# Altium schematic symbol library RF Module.SchLib: 92 symbols (part 2 of 2)
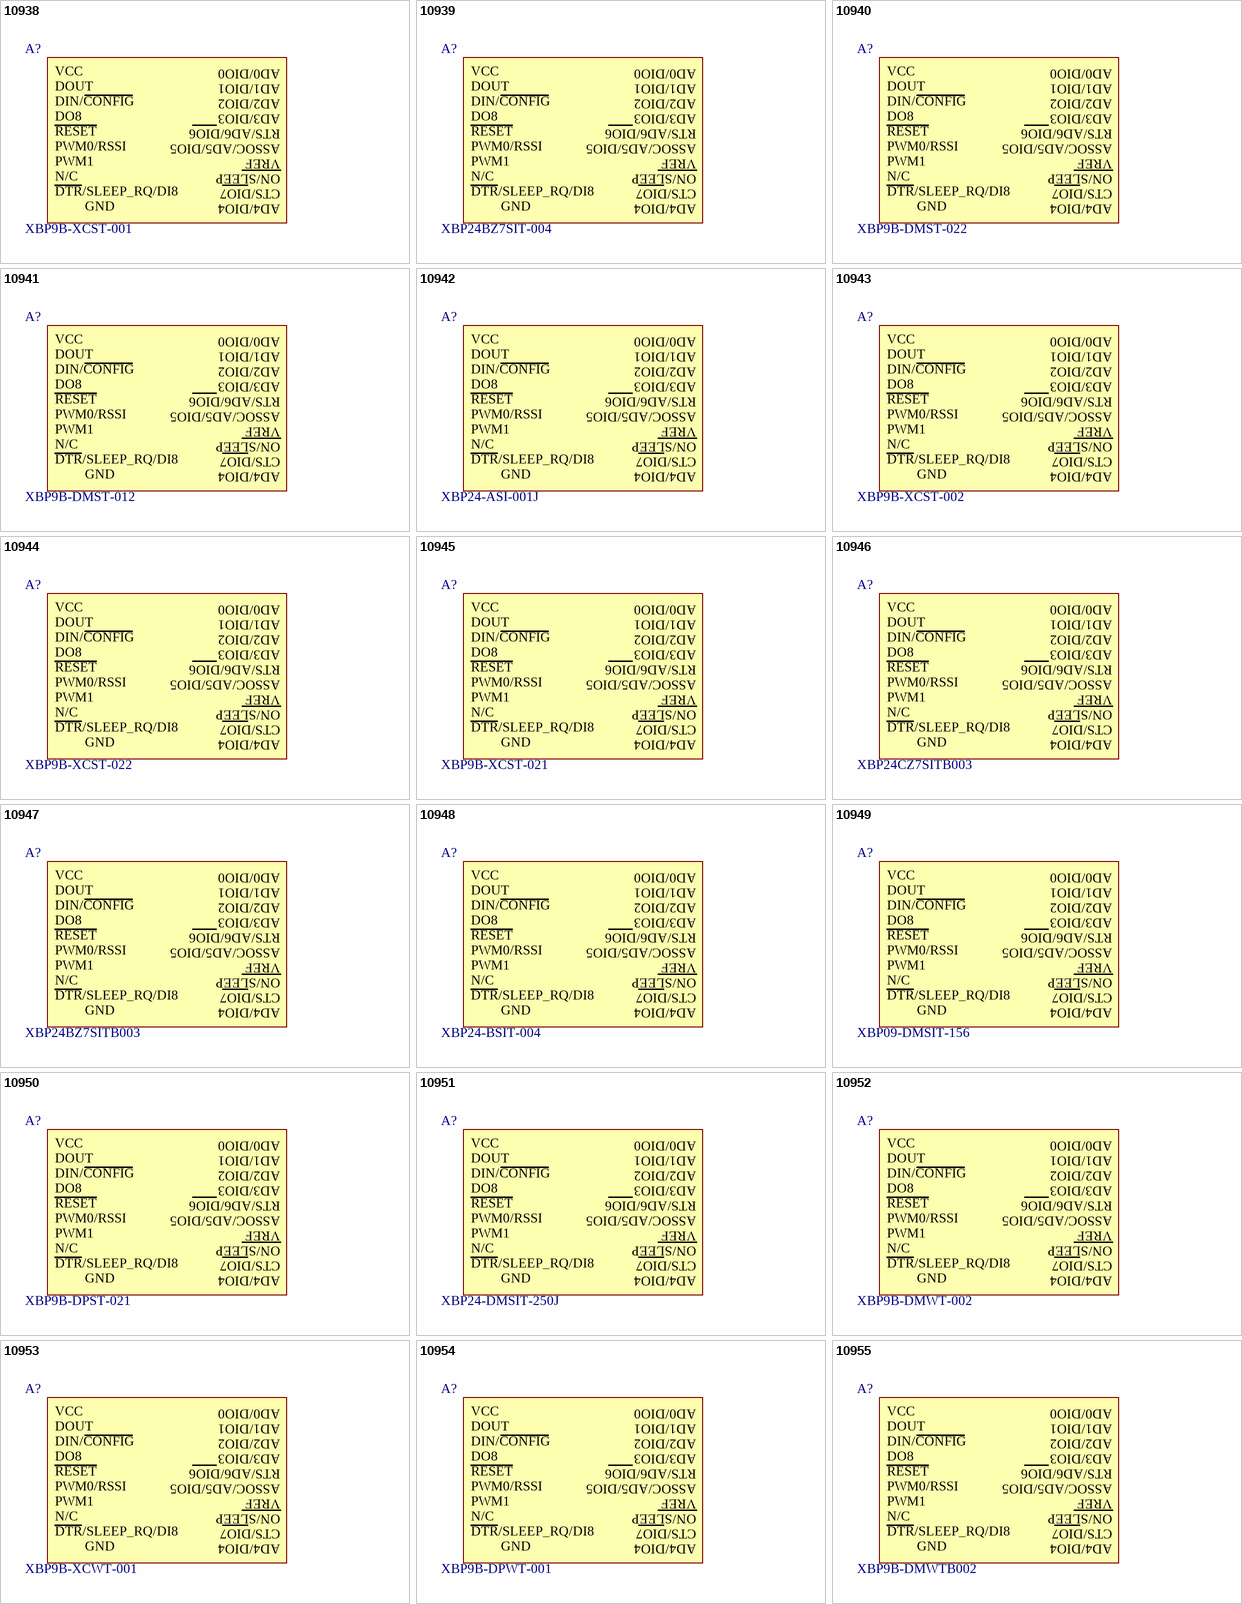
[diagram p7: symbols 10938 to 10955]

## 10938
designator A?, comment XBP9B-XCST-001
XBEE PRO XSC S3B 900MHZ 250MW; Manufacturer: Digi International; RF Family/Standard: General ISM &lt; 1GHz; Modulation: FHSS; Frequency: 902MHz ~ 928MHz; DataRate: 20kbps; Power - Output: 24dBm; Sensitivity: -109dBm; Serial Interfaces: SPI, UART; Antenna Type: Not Included, RP-SMA; Voltage - Supply: 2.4 V ~ 3.6 V; Current - Receiving: 26mA; Current - Transmitting: 215mA; PartId: 10938; Part Number: XBP9B-XCST-001; Supplier 1: Digi-Key; Supplier Part Number 1: 602-1293-ND; ComponentLink1Description: Datasheet; ComponentLink1URL: http://www.digi.com/pdf/ds_xbeeproxsc.pdf; ComponentLink2Description: Digi-Key Listing; ComponentLink2URL: https://www.digikey.com/product-detail/en/digi-international/XBP9B-XCST-001/602-1293-ND/3482817; Price: 58.6; Device Package: Module; Operating Temperature: -40C ~ 85C; Mounting Type: Through Hole
footprint DIGI XBEE PRO RPSMA FOR HDR
text: AD0/DIO0; VCC; AD1/DIO1; DOUT; AD2/DIO2; DIN/CONFIG; AD3/DIO3; DO8; RTS/AD6/DIO6; RESET; ASSOC/AD5/DIO5; PWM0/RSSI; VREF; PWM1; ON/SLEEP; N/C; CTS/DIO7; DTR/SLEEP_RQ/DI8; AD4/DIO4; GND

## 10939
designator A?, comment XBP24BZ7SIT-004
MODULE ZIGBEE-PRO W/RPSMA ANT; Manufacturer: Digi International; Protocol: Zigbee; Frequency: 2.4GHz; DataRate: 250kbps; Power - Output: 18dBm; Sensitivity: -102dBm; Serial Interfaces: IC, PWM, SPI, UART; Antenna Type: Not Included, RP-SMA; Voltage - Supply: 2.7 V ~ 3.6 V; Current - Receiving: 47mA; Current - Transmitting: 205mA; PartId: 10939; Part Number: XBP24BZ7SIT-004; Supplier 1: Digi-Key; Supplier Part Number 1: 602-1180-ND; ComponentLink1Description: Datasheet; ComponentLink1URL: //media.digikey.com/pdf/Data%20Sheets/Digi%20International%20PDFs/xbeezbmodule_ds.pdf; ComponentLink2Description: Digi-Key Listing; ComponentLink2URL: https://www.digikey.com/product-detail/en/digi-international/XBP24BZ7SIT-004/602-1180-ND/2344900; Price: 40.46; Device Package: Module; Operating Temperature: -40C ~ 85C; RF Family/Standard: 802.15.4; Mounting Type: Through Hole
footprint DIGI XBEE PRO RPSMA FOR HDR
text: AD0/DIO0; VCC; AD1/DIO1; DOUT; AD2/DIO2; DIN/CONFIG; AD3/DIO3; DO8; RTS/AD6/DIO6; RESET; ASSOC/AD5/DIO5; PWM0/RSSI; VREF; PWM1; ON/SLEEP; N/C; CTS/DIO7; DTR/SLEEP_RQ/DI8; AD4/DIO4; GND

## 10940
designator A?, comment XBP9B-DMST-022
XBEE PRO RPSMA 250MW 200KBPS; Manufacturer: Digi International; RF Family/Standard: General ISM &lt; 1GHz; Modulation: FHSS; Frequency: 920MHz; Power - Output: 24dBm; Sensitivity: -101dBm; Serial Interfaces: UART; Antenna Type: Not Included, RP-SMA; Voltage - Supply: 2.1 V ~ 3.6 V; Current - Receiving: 29mA; Current - Transmitting: 215mA; PartId: 10940; Part Number: XBP9B-DMST-022; Supplier 1: Digi-Key; Supplier Part Number 1: XBP9B-DMST-022-ND; ComponentLink1Description: Datasheet; ComponentLink1URL: http://www.digi.com/pdf/ds_xbeepro900hp.pdf; ComponentLink2Description: Digi-Key Listing; ComponentLink2URL: https://www.digikey.com/product-detail/en/digi-international/XBP9B-DMST-022/XBP9B-DMST-022-ND/3728682; Price: 54.41; Device Package: Module; Operating Temperature: -40C ~ 85C; DataRate: 200kbps; Mounting Type: Through Hole
footprint DIGI XBEE PRO RPSMA FOR HDR
text: AD0/DIO0; VCC; AD1/DIO1; DOUT; AD2/DIO2; DIN/CONFIG; AD3/DIO3; DO8; RTS/AD6/DIO6; RESET; ASSOC/AD5/DIO5; PWM0/RSSI; VREF; PWM1; ON/SLEEP; N/C; CTS/DIO7; DTR/SLEEP_RQ/DI8; AD4/DIO4; GND

## 10941
designator A?, comment XBP9B-DMST-012
XBEE PRO DIGMESH S3B 900HP RPSMA; Manufacturer: Digi International; RF Family/Standard: General ISM &lt; 1GHz; Modulation: FHSS; Frequency: 902MHz ~ 928MHz; DataRate: 200kbps; Power - Output: 24dBm; Sensitivity: -101dBm; Serial Interfaces: UART; Antenna Type: Not Included, RP-SMA; Voltage - Supply: 2.1 V ~ 3.6 V; Current - Receiving: 29mA; Current - Transmitting: 215mA; PartId: 10941; Part Number: XBP9B-DMST-012; Supplier 1: Digi-Key; Supplier Part Number 1: 602-1304-ND; ComponentLink1Description: Datasheet; ComponentLink1URL: http://www.digi.com/pdf/ds_xbeepro900hp.pdf; ComponentLink2Description: Digi-Key Listing; ComponentLink2URL: https://www.digikey.com/product-detail/en/digi-international/XBP9B-DMST-012/602-1304-ND/3911190; Price: 54.41; Device Package: Module; Operating Temperature: -40C ~ 85C; Mounting Type: Through Hole
footprint DIGI XBEE PRO RPSMA FOR HDR
text: AD0/DIO0; VCC; AD1/DIO1; DOUT; AD2/DIO2; DIN/CONFIG; AD3/DIO3; DO8; RTS/AD6/DIO6; RESET; ASSOC/AD5/DIO5; PWM0/RSSI; VREF; PWM1; ON/SLEEP; N/C; CTS/DIO7; DTR/SLEEP_RQ/DI8; AD4/DIO4; GND

## 10942
designator A?, comment XBP24-ASI-001J
XBEE PRO 802.15.4 10MW RPSMA; Manufacturer: Digi International; Protocol: Zigbee; Frequency: 2.4GHz; DataRate: 250kbps; Power - Output: 10dBm; Sensitivity: -100dBm; Serial Interfaces: UART; Antenna Type: Not Included, RP-SMA; Voltage - Supply: 2.8 V ~ 3.4 V; Current - Receiving: 55mA; Current - Transmitting: 180mA; PartId: 10942; Part Number: XBP24-ASI-001J; Supplier 1: Digi-Key; Supplier Part Number 1: 602-1478-ND; ComponentLink1Description: Datasheet; ComponentLink1URL: http://www.digi.com/pdf/ds_xbeemultipointmodules.pdf; ComponentLink2Description: Digi-Key Listing; ComponentLink2URL: https://www.digikey.com/product-detail/en/digi-international/XBP24-ASI-001J/602-1478-ND/3482670; Price: 47.44; Device Package: Module; Operating Temperature: -40C ~ 85C; RF Family/Standard: 802.15.4; Mounting Type: Through Hole
footprint DIGI XBEE PRO RPSMA FOR HDR
text: AD0/DIO0; VCC; AD1/DIO1; DOUT; AD2/DIO2; DIN/CONFIG; AD3/DIO3; DO8; RTS/AD6/DIO6; RESET; ASSOC/AD5/DIO5; PWM0/RSSI; VREF; PWM1; ON/SLEEP; N/C; CTS/DIO7; DTR/SLEEP_RQ/DI8; AD4/DIO4; GND

## 10943
designator A?, comment XBP9B-XCST-002
XBEE PRO XSC S3B 900MHZ 250MW; Manufacturer: Digi International; RF Family/Standard: General ISM &lt; 1GHz; Modulation: FHSS; Frequency: 902MHz ~ 928MHz; DataRate: 20kbps; Power - Output: 24dBm; Sensitivity: -107dBm; Serial Interfaces: SPI, UART; Antenna Type: Not Included, RP-SMA; Voltage - Supply: 2.4 V ~ 3.6 V; Current - Receiving: 26mA; Current - Transmitting: 215mA; PartId: 10943; Part Number: XBP9B-XCST-002; Supplier 1: Digi-Key; Supplier Part Number 1: 602-1294-ND; ComponentLink1Description: Datasheet; ComponentLink1URL: http://www.digi.com/pdf/ds_xbeeproxsc.pdf; ComponentLink2Description: Digi-Key Listing; ComponentLink2URL: https://www.digikey.com/product-detail/en/digi-international/XBP9B-XCST-002/602-1294-ND/3482818; Price: 58.6; Device Package: Module; Operating Temperature: -40C ~ 85C; Mounting Type: Through Hole
footprint DIGI XBEE PRO RPSMA FOR HDR
text: AD0/DIO0; VCC; AD1/DIO1; DOUT; AD2/DIO2; DIN/CONFIG; AD3/DIO3; DO8; RTS/AD6/DIO6; RESET; ASSOC/AD5/DIO5; PWM0/RSSI; VREF; PWM1; ON/SLEEP; N/C; CTS/DIO7; DTR/SLEEP_RQ/DI8; AD4/DIO4; GND

## 10944
designator A?, comment XBP9B-XCST-022
XBEE PRO XSC S3B 900MHZ 250MW; Manufacturer: Digi International; RF Family/Standard: General ISM &lt; 1GHz; Modulation: FHSS; Frequency: 902MHz ~ 928MHz; DataRate: 20kbps; Power - Output: 24dBm; Sensitivity: -107dBm; Serial Interfaces: SPI, UART; Antenna Type: Not Included, RP-SMA; Voltage - Supply: 2.4 V ~ 3.6 V; Current - Receiving: 26mA; Current - Transmitting: 215mA; PartId: 10944; Part Number: XBP9B-XCST-022; Supplier 1: Digi-Key; Supplier Part Number 1: 602-1353-ND; ComponentLink1Description: Datasheet; ComponentLink1URL: http://www.digi.com/pdf/ds_xbeeproxsc.pdf; ComponentLink2Description: Digi-Key Listing; ComponentLink2URL: https://www.digikey.com/product-detail/en/digi-international/XBP9B-XCST-022/602-1353-ND/3482820; Price: 58.6; Device Package: Module; Operating Temperature: -40C ~ 85C; Mounting Type: Through Hole
footprint DIGI XBEE PRO RPSMA FOR HDR
text: AD0/DIO0; VCC; AD1/DIO1; DOUT; AD2/DIO2; DIN/CONFIG; AD3/DIO3; DO8; RTS/AD6/DIO6; RESET; ASSOC/AD5/DIO5; PWM0/RSSI; VREF; PWM1; ON/SLEEP; N/C; CTS/DIO7; DTR/SLEEP_RQ/DI8; AD4/DIO4; GND

## 10945
designator A?, comment XBP9B-XCST-021
XBEE PRO XSC S3B 900MHZ 250MW; Manufacturer: Digi International; RF Family/Standard: General ISM &lt; 1GHz; Modulation: FHSS; Frequency: 902MHz ~ 928MHz; DataRate: 20kbps; Power - Output: 24dBm; Sensitivity: -109dBm; Serial Interfaces: SPI, UART; Antenna Type: Not Included, RP-SMA; Voltage - Supply: 2.4 V ~ 3.6 V; Current - Receiving: 26mA; Current - Transmitting: 215mA; PartId: 10945; Part Number: XBP9B-XCST-021; Supplier 1: Digi-Key; Supplier Part Number 1: 602-1352-ND; ComponentLink1Description: Datasheet; ComponentLink1URL: http://www.digi.com/pdf/ds_xbeeproxsc.pdf; ComponentLink2Description: Digi-Key Listing; ComponentLink2URL: https://www.digikey.com/product-detail/en/digi-international/XBP9B-XCST-021/602-1352-ND/3482819; Price: 58.6; Device Package: Module; Operating Temperature: -40C ~ 85C; Mounting Type: Through Hole
footprint DIGI XBEE PRO RPSMA FOR HDR
text: AD0/DIO0; VCC; AD1/DIO1; DOUT; AD2/DIO2; DIN/CONFIG; AD3/DIO3; DO8; RTS/AD6/DIO6; RESET; ASSOC/AD5/DIO5; PWM0/RSSI; VREF; PWM1; ON/SLEEP; N/C; CTS/DIO7; DTR/SLEEP_RQ/DI8; AD4/DIO4; GND

## 10946
designator A?, comment XBP24CZ7SITB003
MODULE XBEE W/RPSMA ANT; Manufacturer: Digi International; Protocol: Zigbee; Frequency: 2.4GHz; DataRate: 250kbps; Power - Output: 18dBm; Sensitivity: -101dBm; Serial Interfaces: SPI, UART; Antenna Type: Not Included, RP-SMA; Memory Size: 32kB Flash, 2kB RAM; Voltage - Supply: 2.7 V ~ 3.6 V; Current - Receiving: 45mA; Current - Transmitting: 120mA; PartId: 10946; Part Number: XBP24CZ7SITB003; Supplier 1: Digi-Key; Supplier Part Number 1: 602-1860-ND; ComponentLink1Description: Datasheet; ComponentLink1URL: http://www.digi.com/pdf/ds_xbee_zigbee.pdf; ComponentLink2Description: Digi-Key Listing; ComponentLink2URL: https://www.digikey.com/product-detail/en/digi-international/XBP24CZ7SITB003/602-1860-ND/5322882; Price: 43.6; Device Package: Module; Operating Temperature: -40C ~ 85C; RF Family/Standard: 802.15.4; Mounting Type: Through Hole
footprint DIGI XBEE PRO RPSMA FOR HDR
text: AD0/DIO0; VCC; AD1/DIO1; DOUT; AD2/DIO2; DIN/CONFIG; AD3/DIO3; DO8; RTS/AD6/DIO6; RESET; ASSOC/AD5/DIO5; PWM0/RSSI; VREF; PWM1; ON/SLEEP; N/C; CTS/DIO7; DTR/SLEEP_RQ/DI8; AD4/DIO4; GND

## 10947
designator A?, comment XBP24BZ7SITB003
MODULE ZIGBEE-PRO W/RPSMA ANT; Manufacturer: Digi International; Protocol: Zigbee; Frequency: 2.4GHz; DataRate: 250kbps; Power - Output: 18dBm; Sensitivity: -102dBm; Serial Interfaces: IC, PWM, SPI, UART; Antenna Type: Not Included, RP-SMA; Voltage - Supply: 2.7 V ~ 3.6 V; Current - Receiving: 62mA; Current - Transmitting: 220mA; PartId: 10947; Part Number: XBP24BZ7SITB003; Supplier 1: Digi-Key; Supplier Part Number 1: 602-1190-ND; ComponentLink1Description: Datasheet; ComponentLink1URL: //media.digikey.com/pdf/Data%20Sheets/Digi%20International%20PDFs/xbeezbmodule_ds.pdf; ComponentLink2Description: Digi-Key Listing; ComponentLink2URL: https://www.digikey.com/product-detail/en/digi-international/XBP24BZ7SITB003/602-1190-ND/2522070; Price: 42.9; Device Package: Module; Operating Temperature: -40C ~ 85C; RF Family/Standard: 802.15.4; Mounting Type: Through Hole
footprint DIGI XBEE PRO RPSMA FOR HDR
text: AD0/DIO0; VCC; AD1/DIO1; DOUT; AD2/DIO2; DIN/CONFIG; AD3/DIO3; DO8; RTS/AD6/DIO6; RESET; ASSOC/AD5/DIO5; PWM0/RSSI; VREF; PWM1; ON/SLEEP; N/C; CTS/DIO7; DTR/SLEEP_RQ/DI8; AD4/DIO4; GND

## 10948
designator A?, comment XBP24-BSIT-004
MODULE XBEE PRO ZNET 2.5 W/RPSMA; Manufacturer: Digi International; Protocol: Zigbee; Frequency: 2.4GHz; DataRate: 250kbps; Power - Output: 18dBm; Sensitivity: -102dBm; Serial Interfaces: UART; Antenna Type: Not Included, RP-SMA; Voltage - Supply: 2.7 V ~ 3.6 V; Current - Receiving: 47mA; Current - Transmitting: 205mA; PartId: 10948; Part Number: XBP24-BSIT-004; Supplier 1: Digi-Key; Supplier Part Number 1: XBP24-BSIT-004-ND; ComponentLink1Description: Datasheet; ComponentLink1URL: //media.digikey.com/pdf/Data%20Sheets/Digi%20International%20PDFs/xbeezbmodule_ds.pdf; ComponentLink2Description: Digi-Key Listing; ComponentLink2URL: https://www.digikey.com/product-detail/en/digi-international/XBP24-BSIT-004/XBP24-BSIT-004-ND/1870580; Price: 50.23; Device Package: Module; Operating Temperature: -40C ~ 85C; RF Family/Standard: 802.15.4; Mounting Type: Through Hole
footprint DIGI XBEE PRO RPSMA FOR HDR
text: AD0/DIO0; VCC; AD1/DIO1; DOUT; AD2/DIO2; DIN/CONFIG; AD3/DIO3; DO8; RTS/AD6/DIO6; RESET; ASSOC/AD5/DIO5; PWM0/RSSI; VREF; PWM1; ON/SLEEP; N/C; CTS/DIO7; DTR/SLEEP_RQ/DI8; AD4/DIO4; GND

## 10949
designator A?, comment XBP09-DMSIT-156
MODULE XBEE PRO W/RPSMA; Manufacturer: Digi International; Protocol: Zigbee; Frequency: 900MHz; DataRate: 156kbps; Power - Output: 17dBm; Sensitivity: -100dBm; Antenna Type: Not Included, RP-SMA; Voltage - Supply: 3 V ~ 3.6 V; Current - Receiving: 80mA; Current - Transmitting: 210mA; PartId: 10949; Part Number: XBP09-DMSIT-156; Supplier 1: Digi-Key; Supplier Part Number 1: 602-1476-ND; ComponentLink1Description: Datasheet; ComponentLink1URL: http://ftp1.digi.com/support/documentation/90000903_G.pdf; ComponentLink2Description: Digi-Key Listing; ComponentLink2URL: https://www.digikey.com/product-detail/en/digi-international/XBP09-DMSIT-156/602-1476-ND/2619086; Price: 58.6; Device Package: Module; Operating Temperature: -40C ~ 85C; RF Family/Standard: 802.15.4; Mounting Type: Through Hole
footprint DIGI XBEE PRO RPSMA FOR HDR
text: AD0/DIO0; VCC; AD1/DIO1; DOUT; AD2/DIO2; DIN/CONFIG; AD3/DIO3; DO8; RTS/AD6/DIO6; RESET; ASSOC/AD5/DIO5; PWM0/RSSI; VREF; PWM1; ON/SLEEP; N/C; CTS/DIO7; DTR/SLEEP_RQ/DI8; AD4/DIO4; GND

## 10950
designator A?, comment XBP9B-DPST-021
XBEE PRO RPSMA 250MW 10KBPS; Manufacturer: Digi International; RF Family/Standard: General ISM &lt; 1GHz; Modulation: FHSS; Frequency: 902MHz ~ 928MHz; Power - Output: 24dBm; Sensitivity: -110dBm; Serial Interfaces: SPI, UART; Antenna Type: Not Included, RP-SMA; Voltage - Supply: 2.1 V ~ 3.6 V; Current - Receiving: 29mA; Current - Transmitting: 215mA; PartId: 10950; Part Number: XBP9B-DPST-021; Supplier 1: Digi-Key; Supplier Part Number 1: 602-1488-ND; ComponentLink1Description: Datasheet; ComponentLink1URL: http://www.digi.com/pdf/ds_xbeepro900hp.pdf; ComponentLink2Description: Digi-Key Listing; ComponentLink2URL: https://www.digikey.com/product-detail/en/digi-international/XBP9B-DPST-021/602-1488-ND/3728685; Price: 54.41; Device Package: Module; Operating Temperature: -40C ~ 85C; DataRate: 10kbps; Mounting Type: Through Hole
footprint DIGI XBEE PRO RPSMA FOR HDR
text: AD0/DIO0; VCC; AD1/DIO1; DOUT; AD2/DIO2; DIN/CONFIG; AD3/DIO3; DO8; RTS/AD6/DIO6; RESET; ASSOC/AD5/DIO5; PWM0/RSSI; VREF; PWM1; ON/SLEEP; N/C; CTS/DIO7; DTR/SLEEP_RQ/DI8; AD4/DIO4; GND

## 10951
designator A?, comment XBP24-DMSIT-250J
XBEE PRO DIGIMESH 2.4GHZ 63MW; Manufacturer: Digi International; RF Family/Standard: General ISM &gt; 1GHZ; Modulation: DSSS; DataRate: 250kbps; Power - Output: 10dBm; Sensitivity: -100dBm; Serial Interfaces: UART; Antenna Type: Not Included, RP-SMA; Voltage - Supply: 2.8 V ~ 3.4 V; Current - Receiving: 55mA; Current - Transmitting: 180mA; PartId: 10951; Part Number: XBP24-DMSIT-250J; Supplier 1: Digi-Key; Supplier Part Number 1: 602-1809-ND; ComponentLink1Description: Datasheet; ComponentLink1URL: http://www.digi.com/pdf/ds_xbeedigimesh24.pdf; ComponentLink2Description: Digi-Key Listing; ComponentLink2URL: https://www.digikey.com/product-detail/en/digi-international/XBP24-DMSIT-250J/602-1809-ND/3482756; Price: 47.44; Device Package: Module; Operating Temperature: -40C ~ 85C; Frequency: 2.4GHz; Mounting Type: Through Hole
footprint DIGI XBEE PRO RPSMA FOR HDR
text: AD0/DIO0; VCC; AD1/DIO1; DOUT; AD2/DIO2; DIN/CONFIG; AD3/DIO3; DO8; RTS/AD6/DIO6; RESET; ASSOC/AD5/DIO5; PWM0/RSSI; VREF; PWM1; ON/SLEEP; N/C; CTS/DIO7; DTR/SLEEP_RQ/DI8; AD4/DIO4; GND

## 10952
designator A?, comment XBP9B-DMWT-002
MODULE XBEE PRO S3B 900HP WR ANT; Manufacturer: Digi International; RF Family/Standard: General ISM &lt; 1GHz; Modulation: FHSS; Frequency: 900MHz; DataRate: 200kbps; Power - Output: 24dBm; Sensitivity: -101dBm; Serial Interfaces: SPI, UART; Antenna Type: Integrated, Wire Antenna; Voltage - Supply: 2.1 V ~ 3.6 V; Current - Receiving: 29mA; Current - Transmitting: 215mA; PartId: 10952; Part Number: XBP9B-DMWT-002; Supplier 1: Digi-Key; Supplier Part Number 1: 602-1301-ND; ComponentLink1Description: Datasheet; ComponentLink1URL: http://www.digi.com/pdf/ds_xbeepro900hp.pdf; ComponentLink2Description: Digi-Key Listing; ComponentLink2URL: https://www.digikey.com/product-detail/en/digi-international/XBP9B-DMWT-002/602-1301-ND/3594159; Price: 54.41; Device Package: Module; Operating Temperature: -40C ~ 85C; Mounting Type: Through Hole
footprint DIGI XBEE PRO WIRE 900 FOR HDR
text: AD0/DIO0; VCC; AD1/DIO1; DOUT; AD2/DIO2; DIN/CONFIG; AD3/DIO3; DO8; RTS/AD6/DIO6; RESET; ASSOC/AD5/DIO5; PWM0/RSSI; VREF; PWM1; ON/SLEEP; N/C; CTS/DIO7; DTR/SLEEP_RQ/DI8; AD4/DIO4; GND

## 10953
designator A?, comment XBP9B-XCWT-001
XBEE PRO XSC S3B 900MHZ 250MW; Manufacturer: Digi International; RF Family/Standard: General ISM &lt; 1GHz; Modulation: FHSS; Frequency: 902MHz ~ 928MHz; DataRate: 10kbps; Power - Output: 24dBm; Sensitivity: -109dBm; Serial Interfaces: SPI, UART; Antenna Type: Integrated, Wire Antenna; Voltage - Supply: 2.4 V ~ 3.6 V; Current - Receiving: 26mA; Current - Transmitting: 215mA; PartId: 10953; Part Number: XBP9B-XCWT-001; Supplier 1: Digi-Key; Supplier Part Number 1: 602-1297-ND; ComponentLink1Description: Datasheet; ComponentLink1URL: http://www.digi.com/pdf/ds_xbeeproxsc.pdf; ComponentLink2Description: Digi-Key Listing; ComponentLink2URL: https://www.digikey.com/product-detail/en/digi-international/XBP9B-XCWT-001/602-1297-ND/3482824; Price: 54.41; Device Package: Module; Operating Temperature: -40C ~ 85C; Mounting Type: Through Hole
footprint DIGI XBEE PRO WIRE 900 FOR HDR
text: AD0/DIO0; VCC; AD1/DIO1; DOUT; AD2/DIO2; DIN/CONFIG; AD3/DIO3; DO8; RTS/AD6/DIO6; RESET; ASSOC/AD5/DIO5; PWM0/RSSI; VREF; PWM1; ON/SLEEP; N/C; CTS/DIO7; DTR/SLEEP_RQ/DI8; AD4/DIO4; GND

## 10954
designator A?, comment XBP9B-DPWT-001
MODULE XBEE PRO S3B 900HP WR ANT; Manufacturer: Digi International; RF Family/Standard: General ISM &lt; 1GHz; Modulation: FHSS; Frequency: 902MHz ~ 928MHz; DataRate: 10kbps; Power - Output: 24dBm; Sensitivity: -110dBm; Serial Interfaces: SPI, UART; Antenna Type: Integrated, Wire Antenna; Voltage - Supply: 2.1 V ~ 3.6 V; Current - Receiving: 29mA; Current - Transmitting: 215mA; PartId: 10954; Part Number: XBP9B-DPWT-001; Supplier 1: Digi-Key; Supplier Part Number 1: 602-1351-ND; ComponentLink1Description: Datasheet; ComponentLink1URL: http://www.digi.com/pdf/ds_xbeepro900hp.pdf; ComponentLink2Description: Digi-Key Listing; ComponentLink2URL: https://www.digikey.com/product-detail/en/digi-international/XBP9B-DPWT-001/602-1351-ND/3594162; Price: 54.41; Device Package: Module; Operating Temperature: -40C ~ 85C; Mounting Type: Through Hole
footprint DIGI XBEE PRO WIRE 900 FOR HDR
text: AD0/DIO0; VCC; AD1/DIO1; DOUT; AD2/DIO2; DIN/CONFIG; AD3/DIO3; DO8; RTS/AD6/DIO6; RESET; ASSOC/AD5/DIO5; PWM0/RSSI; VREF; PWM1; ON/SLEEP; N/C; CTS/DIO7; DTR/SLEEP_RQ/DI8; AD4/DIO4; GND

## 10955
designator A?, comment XBP9B-DMWTB002
XBEE PRO DIGIMESH S3B 900HP WIRE; Manufacturer: Digi International; RF Family/Standard: General ISM &lt; 1GHz; Modulation: FHSS; Frequency: 900MHz; DataRate: 200kbps; Power - Output: 24dBm; Sensitivity: -101dBm; Serial Interfaces: SPI, UART; Antenna Type: Integrated, Wire Antenna; Memory Size: 32kB Flash, 2kB RAM; Voltage - Supply: 2.1 V ~ 3.6 V; Current - Receiving: 29mA; Current - Transmitting: 215mA; PartId: 10955; Part Number: XBP9B-DMWTB002; Supplier 1: Digi-Key; Supplier Part Number 1: 602-1348-ND; ComponentLink1Description: Datasheet; ComponentLink1URL: http://www.digi.com/pdf/ds_xbeepro900hp.pdf; ComponentLink2Description: Digi-Key Listing; ComponentLink2URL: https://www.digikey.com/product-detail/en/digi-international/XBP9B-DMWTB002/602-1348-ND/3863552; Price: 58.25; Device Package: Module; Operating Temperature: -40C ~ 85C; Mounting Type: Through Hole
footprint DIGI XBEE PRO WIRE 900 FOR HDR
text: AD0/DIO0; VCC; AD1/DIO1; DOUT; AD2/DIO2; DIN/CONFIG; AD3/DIO3; DO8; RTS/AD6/DIO6; RESET; ASSOC/AD5/DIO5; PWM0/RSSI; VREF; PWM1; ON/SLEEP; N/C; CTS/DIO7; DTR/SLEEP_RQ/DI8; AD4/DIO4; GND

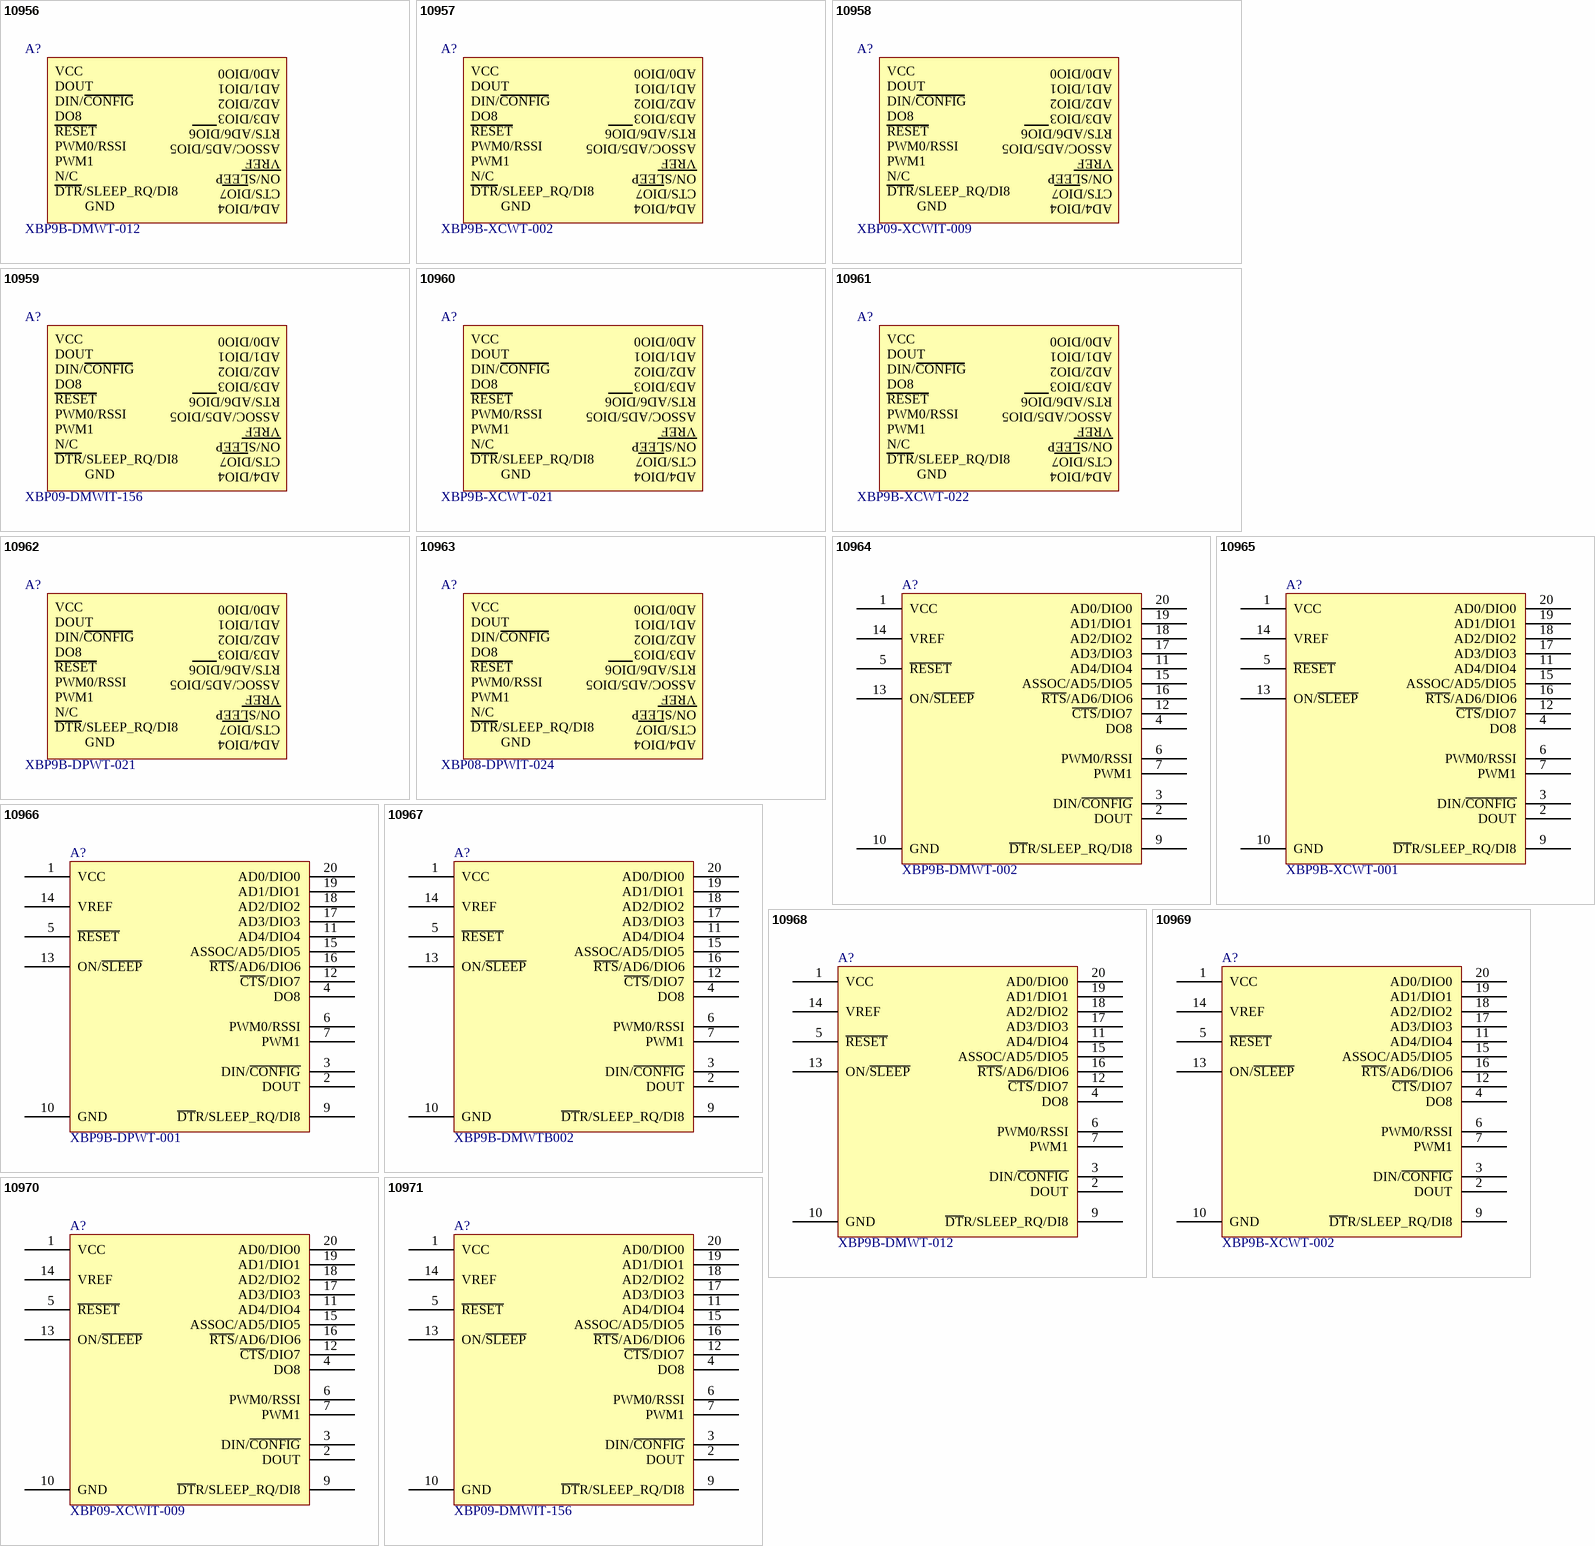
[diagram p4: symbols 10956 to 10971]

## 10956
designator A?, comment XBP9B-DMWT-012
XBEE PRO DIGIMESH S3B 900HP WIRE; Manufacturer: Digi International; RF Family/Standard: General ISM &lt; 1GHz; Modulation: FHSS; Frequency: 902MHz ~ 928MHz; DataRate: 200kbps; Power - Output: 24dBm; Sensitivity: -101dBm; Serial Interfaces: SPI, UART; Antenna Type: Integrated, Wire Antenna; Voltage - Supply: 2.1 V ~ 3.6 V; Current - Receiving: 29mA; Current - Transmitting: 215mA; PartId: 10956; Part Number: XBP9B-DMWT-012; Supplier 1: Digi-Key; Supplier Part Number 1: 602-1306-ND; ComponentLink1Description: Datasheet; ComponentLink1URL: http://www.digi.com/pdf/ds_xbeepro900hp.pdf; ComponentLink2Description: Digi-Key Listing; ComponentLink2URL: https://www.digikey.com/product-detail/en/digi-international/XBP9B-DMWT-012/602-1306-ND/3911192; Price: 54.41; Device Package: Module; Operating Temperature: -40C ~ 85C; Mounting Type: Through Hole
footprint DIGI XBEE PRO WIRE 900 FOR HDR
text: AD0/DIO0; VCC; AD1/DIO1; DOUT; AD2/DIO2; DIN/CONFIG; AD3/DIO3; DO8; RTS/AD6/DIO6; RESET; ASSOC/AD5/DIO5; PWM0/RSSI; VREF; PWM1; ON/SLEEP; N/C; CTS/DIO7; DTR/SLEEP_RQ/DI8; AD4/DIO4; GND

## 10957
designator A?, comment XBP9B-XCWT-002
XBEE PRO XSC S3B 900MHZ 250MW; Manufacturer: Digi International; RF Family/Standard: General ISM &lt; 1GHz; Modulation: FHSS; Frequency: 902MHz ~ 928MHz; DataRate: 20kbps; Power - Output: 24dBm; Sensitivity: -107dBm; Serial Interfaces: SPI, UART; Antenna Type: Integrated, Wire Antenna; Voltage - Supply: 2.4 V ~ 3.6 V; Current - Receiving: 26mA; Current - Transmitting: 215mA; PartId: 10957; Part Number: XBP9B-XCWT-002; Supplier 1: Digi-Key; Supplier Part Number 1: 602-1298-ND; ComponentLink1Description: Datasheet; ComponentLink1URL: http://www.digi.com/pdf/ds_xbeeproxsc.pdf; ComponentLink2Description: Digi-Key Listing; ComponentLink2URL: https://www.digikey.com/product-detail/en/digi-international/XBP9B-XCWT-002/602-1298-ND/3482825; Price: 54.41; Device Package: Module; Operating Temperature: -40C ~ 85C; Mounting Type: Through Hole
footprint DIGI XBEE PRO WIRE 900 FOR HDR
text: AD0/DIO0; VCC; AD1/DIO1; DOUT; AD2/DIO2; DIN/CONFIG; AD3/DIO3; DO8; RTS/AD6/DIO6; RESET; ASSOC/AD5/DIO5; PWM0/RSSI; VREF; PWM1; ON/SLEEP; N/C; CTS/DIO7; DTR/SLEEP_RQ/DI8; AD4/DIO4; GND

## 10958
designator A?, comment XBP09-XCWIT-009
XBEE-PRO XSC -100MW 9.6KBPS; Manufacturer: Digi International; RF Family/Standard: General ISM &lt; 1GHz; Modulation: FHSS; Frequency: 900MHz; DataRate: 10kbps; Power - Output: 20dBm; Sensitivity: -106dBm; Serial Interfaces: UART; Antenna Type: Integrated, Wire Antenna; Voltage - Supply: 3 V ~ 3.6 V; Current - Receiving: 65mA; Current - Transmitting: 265mA; PartId: 10958; Part Number: XBP09-XCWIT-009; Supplier 1: Digi-Key; Supplier Part Number 1: 602-1279-ND; ComponentLink1Description: Datasheet; ComponentLink1URL: http://www.digi.com/pdf/ds_xbeeproxsc.pdf; ComponentLink2Description: Digi-Key Listing; ComponentLink2URL: https://www.digikey.com/product-detail/en/digi-international/XBP09-XCWIT-009/602-1279-ND/3079625; Price: 54.41; Device Package: Module; Operating Temperature: -40C ~ 85C; Mounting Type: Through Hole
footprint DIGI XBEE PRO WIRE 900 FOR HDR
text: AD0/DIO0; VCC; AD1/DIO1; DOUT; AD2/DIO2; DIN/CONFIG; AD3/DIO3; DO8; RTS/AD6/DIO6; RESET; ASSOC/AD5/DIO5; PWM0/RSSI; VREF; PWM1; ON/SLEEP; N/C; CTS/DIO7; DTR/SLEEP_RQ/DI8; AD4/DIO4; GND

## 10959
designator A?, comment XBP09-DMWIT-156
XBEE PRO DIGIMESH 900MHZ WIRE; Manufacturer: Digi International; Protocol: Zigbee; DataRate: 156kbps; Power - Output: 17dBm; Sensitivity: -100dBm; Antenna Type: Integrated, Wire Antenna; Voltage - Supply: 3 V ~ 3.6 V; Current - Receiving: 80mA; Current - Transmitting: 210mA; PartId: 10959; Part Number: XBP09-DMWIT-156; Supplier 1: Digi-Key; Supplier Part Number 1: 602-1277-ND; ComponentLink1Description: Datasheet; ComponentLink1URL: http://ftp1.digi.com/support/documentation/90000903_G.pdf; ComponentLink2Description: Digi-Key Listing; ComponentLink2URL: https://www.digikey.com/product-detail/en/digi-international/XBP09-DMWIT-156/602-1277-ND/3482661; Price: 54.41; Device Package: Module; Operating Temperature: -40C ~ 85C; RF Family/Standard: 802.15.4; Frequency: 900MHz; Mounting Type: Through Hole
footprint DIGI XBEE PRO WIRE 900 FOR HDR
text: AD0/DIO0; VCC; AD1/DIO1; DOUT; AD2/DIO2; DIN/CONFIG; AD3/DIO3; DO8; RTS/AD6/DIO6; RESET; ASSOC/AD5/DIO5; PWM0/RSSI; VREF; PWM1; ON/SLEEP; N/C; CTS/DIO7; DTR/SLEEP_RQ/DI8; AD4/DIO4; GND

## 10960
designator A?, comment XBP9B-XCWT-021
XBEE PRO XSC S3B 900MHZ 250MW; Manufacturer: Digi International; RF Family/Standard: General ISM &lt; 1GHz; Modulation: FHSS; Frequency: 902MHz ~ 928MHz; DataRate: 10kbps; Power - Output: 24dBm; Sensitivity: -109dBm; Serial Interfaces: SPI, UART; Antenna Type: Integrated, Wire Antenna; Voltage - Supply: 2.4 V ~ 3.6 V; Current - Receiving: 26mA; Current - Transmitting: 215mA; PartId: 10960; Part Number: XBP9B-XCWT-021; Supplier 1: Digi-Key; Supplier Part Number 1: 602-1356-ND; ComponentLink1Description: Datasheet; ComponentLink1URL: http://www.digi.com/pdf/ds_xbeeproxsc.pdf; ComponentLink2Description: Digi-Key Listing; ComponentLink2URL: https://www.digikey.com/product-detail/en/digi-international/XBP9B-XCWT-021/602-1356-ND/3482826; Price: 54.41; Device Package: Module; Operating Temperature: -40C ~ 85C; Mounting Type: Through Hole
footprint DIGI XBEE PRO WIRE 900 FOR HDR
text: AD0/DIO0; VCC; AD1/DIO1; DOUT; AD2/DIO2; DIN/CONFIG; AD3/DIO3; DO8; RTS/AD6/DIO6; RESET; ASSOC/AD5/DIO5; PWM0/RSSI; VREF; PWM1; ON/SLEEP; N/C; CTS/DIO7; DTR/SLEEP_RQ/DI8; AD4/DIO4; GND

## 10961
designator A?, comment XBP9B-XCWT-022
XBEE PRO XSC S3B 900MHZ 250MW; Manufacturer: Digi International; RF Family/Standard: General ISM &lt; 1GHz; Modulation: FHSS; Frequency: 902MHz ~ 928MHz; DataRate: 10kbps; Power - Output: 24dBm; Sensitivity: -107dBm; Serial Interfaces: SPI, UART; Antenna Type: Integrated, Wire Antenna; Voltage - Supply: 2.4 V ~ 3.6 V; Current - Receiving: 26mA; Current - Transmitting: 215mA; PartId: 10961; Part Number: XBP9B-XCWT-022; Supplier 1: Digi-Key; Supplier Part Number 1: 602-1357-ND; ComponentLink1Description: Datasheet; ComponentLink1URL: http://www.digi.com/pdf/ds_xbeeproxsc.pdf; ComponentLink2Description: Digi-Key Listing; ComponentLink2URL: https://www.digikey.com/product-detail/en/digi-international/XBP9B-XCWT-022/602-1357-ND/3482827; Price: 54.41; Device Package: Module; Operating Temperature: -40C ~ 85C; Mounting Type: Through Hole
footprint DIGI XBEE PRO WIRE 900 FOR HDR
text: AD0/DIO0; VCC; AD1/DIO1; DOUT; AD2/DIO2; DIN/CONFIG; AD3/DIO3; DO8; RTS/AD6/DIO6; RESET; ASSOC/AD5/DIO5; PWM0/RSSI; VREF; PWM1; ON/SLEEP; N/C; CTS/DIO7; DTR/SLEEP_RQ/DI8; AD4/DIO4; GND

## 10962
designator A?, comment XBP9B-DPWT-021
XBEE PRO WIRE ANT 250MW 10KBPS; Manufacturer: Digi International; RF Family/Standard: General ISM &lt; 1GHz; Modulation: FHSS; Frequency: 902MHz ~ 928MHz; Power - Output: 24dBm; Sensitivity: -110dBm; Serial Interfaces: SPI, UART; Antenna Type: Integrated, Wire Antenna; Voltage - Supply: 2.1 V ~ 3.6 V; Current - Receiving: 29mA; Current - Transmitting: 215mA; PartId: 10962; Part Number: XBP9B-DPWT-021; Supplier 1: Digi-Key; Supplier Part Number 1: 602-1489-ND; ComponentLink1Description: Datasheet; ComponentLink1URL: http://www.digi.com/pdf/ds_xbeepro900hp.pdf; ComponentLink2Description: Digi-Key Listing; ComponentLink2URL: https://www.digikey.com/product-detail/en/digi-international/XBP9B-DPWT-021/602-1489-ND/3728687; Price: 54.41; Device Package: Module; Operating Temperature: -40C ~ 85C; DataRate: 10kbps; Mounting Type: Through Hole
footprint DIGI XBEE PRO WIRE 900 FOR HDR
text: AD0/DIO0; VCC; AD1/DIO1; DOUT; AD2/DIO2; DIN/CONFIG; AD3/DIO3; DO8; RTS/AD6/DIO6; RESET; ASSOC/AD5/DIO5; PWM0/RSSI; VREF; PWM1; ON/SLEEP; N/C; CTS/DIO7; DTR/SLEEP_RQ/DI8; AD4/DIO4; GND

## 10963
designator A?, comment XBP08-DPWIT-024
XBEE PRO 868MHZ 1-315MW WIRE EU; Manufacturer: Digi International; Protocol: Zigbee; DataRate: 24kbps; Power - Output: 25dBm; Sensitivity: -112dBm; Antenna Type: Integrated, Wire Antenna; Voltage - Supply: 3 V ~ 3.6 V; Current - Receiving: 65mA; Current - Transmitting: 500mA; PartId: 10963; Part Number: XBP08-DPWIT-024; Supplier 1: Digi-Key; Supplier Part Number 1: 602-1475-ND; ComponentLink1Description: Datasheet; ComponentLink1URL: http://www.digi.com/pdf/ds_xbeepro868.pdf; ComponentLink2Description: Digi-Key Listing; ComponentLink2URL: https://www.digikey.com/product-detail/en/digi-international/XBP08-DPWIT-024/602-1475-ND/3482658; Price: 62.78; Device Package: Module; Operating Temperature: -40C ~ 85C; RF Family/Standard: 802.15.4; Frequency: 868MHz; Mounting Type: Through Hole
footprint DIGI XBEE PRO WIRE 900 FOR HDR
text: AD0/DIO0; VCC; AD1/DIO1; DOUT; AD2/DIO2; DIN/CONFIG; AD3/DIO3; DO8; RTS/AD6/DIO6; RESET; ASSOC/AD5/DIO5; PWM0/RSSI; VREF; PWM1; ON/SLEEP; N/C; CTS/DIO7; DTR/SLEEP_RQ/DI8; AD4/DIO4; GND

## 10964
designator A?, comment XBP9B-DMWT-002
MODULE XBEE PRO S3B 900HP WR ANT; Manufacturer: Digi International; RF Family/Standard: General ISM &lt; 1GHz; Modulation: FHSS; Frequency: 900MHz; DataRate: 200kbps; Power - Output: 24dBm; Sensitivity: -101dBm; Serial Interfaces: SPI, UART; Antenna Type: Integrated, Wire Antenna; Voltage - Supply: 2.1 V ~ 3.6 V; Current - Receiving: 29mA; Current - Transmitting: 215mA; PartId: 10964; Part Number: XBP9B-DMWT-002; Supplier 1: Digi-Key; Supplier Part Number 1: 602-1301-ND; ComponentLink1Description: Datasheet; ComponentLink1URL: http://www.digi.com/pdf/ds_xbeepro900hp.pdf; ComponentLink2Description: Digi-Key Listing; ComponentLink2URL: https://www.digikey.com/product-detail/en/digi-international/XBP9B-DMWT-002/602-1301-ND/3594159; Price: 54.41; Device Package: Module; Operating Temperature: -40C ~ 85C; Mounting Type: Through Hole
footprint DIGI XBEE PRO WIRE 900
pins: 1 VCC, 2 DOUT, 3 DIN/~{CONFIG}, 4 DO8, 5 ~{RESET}, 6 PWM0/RSSI, 7 PWM1, 9 ~{DT}R/SLEEP_RQ/DI8, 10 GND, 11 AD4/DIO4, 12 ~{CTS}/DIO7, 13 ON/~{SLEEP}, 14 VREF, 15 ASSOC/AD5/DIO5, 16 ~{RTS}/AD6/DIO6, 17 AD3/DIO3, 18 AD2/DIO2, 19 AD1/DIO1, 20 AD0/DIO0

## 10965
designator A?, comment XBP9B-XCWT-001
XBEE PRO XSC S3B 900MHZ 250MW; Manufacturer: Digi International; RF Family/Standard: General ISM &lt; 1GHz; Modulation: FHSS; Frequency: 902MHz ~ 928MHz; DataRate: 10kbps; Power - Output: 24dBm; Sensitivity: -109dBm; Serial Interfaces: SPI, UART; Antenna Type: Integrated, Wire Antenna; Voltage - Supply: 2.4 V ~ 3.6 V; Current - Receiving: 26mA; Current - Transmitting: 215mA; PartId: 10965; Part Number: XBP9B-XCWT-001; Supplier 1: Digi-Key; Supplier Part Number 1: 602-1297-ND; ComponentLink1Description: Datasheet; ComponentLink1URL: http://www.digi.com/pdf/ds_xbeeproxsc.pdf; ComponentLink2Description: Digi-Key Listing; ComponentLink2URL: https://www.digikey.com/product-detail/en/digi-international/XBP9B-XCWT-001/602-1297-ND/3482824; Price: 54.41; Device Package: Module; Operating Temperature: -40C ~ 85C; Mounting Type: Through Hole
footprint DIGI XBEE PRO WIRE 900
pins: 1 VCC, 2 DOUT, 3 DIN/~{CONFIG}, 4 DO8, 5 ~{RESET}, 6 PWM0/RSSI, 7 PWM1, 9 ~{DT}R/SLEEP_RQ/DI8, 10 GND, 11 AD4/DIO4, 12 ~{CTS}/DIO7, 13 ON/~{SLEEP}, 14 VREF, 15 ASSOC/AD5/DIO5, 16 ~{RTS}/AD6/DIO6, 17 AD3/DIO3, 18 AD2/DIO2, 19 AD1/DIO1, 20 AD0/DIO0

## 10966
designator A?, comment XBP9B-DPWT-001
MODULE XBEE PRO S3B 900HP WR ANT; Manufacturer: Digi International; RF Family/Standard: General ISM &lt; 1GHz; Modulation: FHSS; Frequency: 902MHz ~ 928MHz; DataRate: 10kbps; Power - Output: 24dBm; Sensitivity: -110dBm; Serial Interfaces: SPI, UART; Antenna Type: Integrated, Wire Antenna; Voltage - Supply: 2.1 V ~ 3.6 V; Current - Receiving: 29mA; Current - Transmitting: 215mA; PartId: 10966; Part Number: XBP9B-DPWT-001; Supplier 1: Digi-Key; Supplier Part Number 1: 602-1351-ND; ComponentLink1Description: Datasheet; ComponentLink1URL: http://www.digi.com/pdf/ds_xbeepro900hp.pdf; ComponentLink2Description: Digi-Key Listing; ComponentLink2URL: https://www.digikey.com/product-detail/en/digi-international/XBP9B-DPWT-001/602-1351-ND/3594162; Price: 54.41; Device Package: Module; Operating Temperature: -40C ~ 85C; Mounting Type: Through Hole
footprint DIGI XBEE PRO WIRE 900
pins: 1 VCC, 2 DOUT, 3 DIN/~{CONFIG}, 4 DO8, 5 ~{RESET}, 6 PWM0/RSSI, 7 PWM1, 9 ~{DT}R/SLEEP_RQ/DI8, 10 GND, 11 AD4/DIO4, 12 ~{CTS}/DIO7, 13 ON/~{SLEEP}, 14 VREF, 15 ASSOC/AD5/DIO5, 16 ~{RTS}/AD6/DIO6, 17 AD3/DIO3, 18 AD2/DIO2, 19 AD1/DIO1, 20 AD0/DIO0

## 10967
designator A?, comment XBP9B-DMWTB002
XBEE PRO DIGIMESH S3B 900HP WIRE; Manufacturer: Digi International; RF Family/Standard: General ISM &lt; 1GHz; Modulation: FHSS; Frequency: 900MHz; DataRate: 200kbps; Power - Output: 24dBm; Sensitivity: -101dBm; Serial Interfaces: SPI, UART; Antenna Type: Integrated, Wire Antenna; Memory Size: 32kB Flash, 2kB RAM; Voltage - Supply: 2.1 V ~ 3.6 V; Current - Receiving: 29mA; Current - Transmitting: 215mA; PartId: 10967; Part Number: XBP9B-DMWTB002; Supplier 1: Digi-Key; Supplier Part Number 1: 602-1348-ND; ComponentLink1Description: Datasheet; ComponentLink1URL: http://www.digi.com/pdf/ds_xbeepro900hp.pdf; ComponentLink2Description: Digi-Key Listing; ComponentLink2URL: https://www.digikey.com/product-detail/en/digi-international/XBP9B-DMWTB002/602-1348-ND/3863552; Price: 58.25; Device Package: Module; Operating Temperature: -40C ~ 85C; Mounting Type: Through Hole
footprint DIGI XBEE PRO WIRE 900
pins: 1 VCC, 2 DOUT, 3 DIN/~{CONFIG}, 4 DO8, 5 ~{RESET}, 6 PWM0/RSSI, 7 PWM1, 9 ~{DT}R/SLEEP_RQ/DI8, 10 GND, 11 AD4/DIO4, 12 ~{CTS}/DIO7, 13 ON/~{SLEEP}, 14 VREF, 15 ASSOC/AD5/DIO5, 16 ~{RTS}/AD6/DIO6, 17 AD3/DIO3, 18 AD2/DIO2, 19 AD1/DIO1, 20 AD0/DIO0

## 10968
designator A?, comment XBP9B-DMWT-012
XBEE PRO DIGIMESH S3B 900HP WIRE; Manufacturer: Digi International; RF Family/Standard: General ISM &lt; 1GHz; Modulation: FHSS; Frequency: 902MHz ~ 928MHz; DataRate: 200kbps; Power - Output: 24dBm; Sensitivity: -101dBm; Serial Interfaces: SPI, UART; Antenna Type: Integrated, Wire Antenna; Voltage - Supply: 2.1 V ~ 3.6 V; Current - Receiving: 29mA; Current - Transmitting: 215mA; PartId: 10968; Part Number: XBP9B-DMWT-012; Supplier 1: Digi-Key; Supplier Part Number 1: 602-1306-ND; ComponentLink1Description: Datasheet; ComponentLink1URL: http://www.digi.com/pdf/ds_xbeepro900hp.pdf; ComponentLink2Description: Digi-Key Listing; ComponentLink2URL: https://www.digikey.com/product-detail/en/digi-international/XBP9B-DMWT-012/602-1306-ND/3911192; Price: 54.41; Device Package: Module; Operating Temperature: -40C ~ 85C; Mounting Type: Through Hole
footprint DIGI XBEE PRO WIRE 900
pins: 1 VCC, 2 DOUT, 3 DIN/~{CONFIG}, 4 DO8, 5 ~{RESET}, 6 PWM0/RSSI, 7 PWM1, 9 ~{DT}R/SLEEP_RQ/DI8, 10 GND, 11 AD4/DIO4, 12 ~{CTS}/DIO7, 13 ON/~{SLEEP}, 14 VREF, 15 ASSOC/AD5/DIO5, 16 ~{RTS}/AD6/DIO6, 17 AD3/DIO3, 18 AD2/DIO2, 19 AD1/DIO1, 20 AD0/DIO0

## 10969
designator A?, comment XBP9B-XCWT-002
XBEE PRO XSC S3B 900MHZ 250MW; Manufacturer: Digi International; RF Family/Standard: General ISM &lt; 1GHz; Modulation: FHSS; Frequency: 902MHz ~ 928MHz; DataRate: 20kbps; Power - Output: 24dBm; Sensitivity: -107dBm; Serial Interfaces: SPI, UART; Antenna Type: Integrated, Wire Antenna; Voltage - Supply: 2.4 V ~ 3.6 V; Current - Receiving: 26mA; Current - Transmitting: 215mA; PartId: 10969; Part Number: XBP9B-XCWT-002; Supplier 1: Digi-Key; Supplier Part Number 1: 602-1298-ND; ComponentLink1Description: Datasheet; ComponentLink1URL: http://www.digi.com/pdf/ds_xbeeproxsc.pdf; ComponentLink2Description: Digi-Key Listing; ComponentLink2URL: https://www.digikey.com/product-detail/en/digi-international/XBP9B-XCWT-002/602-1298-ND/3482825; Price: 54.41; Device Package: Module; Operating Temperature: -40C ~ 85C; Mounting Type: Through Hole
footprint DIGI XBEE PRO WIRE 900
pins: 1 VCC, 2 DOUT, 3 DIN/~{CONFIG}, 4 DO8, 5 ~{RESET}, 6 PWM0/RSSI, 7 PWM1, 9 ~{DT}R/SLEEP_RQ/DI8, 10 GND, 11 AD4/DIO4, 12 ~{CTS}/DIO7, 13 ON/~{SLEEP}, 14 VREF, 15 ASSOC/AD5/DIO5, 16 ~{RTS}/AD6/DIO6, 17 AD3/DIO3, 18 AD2/DIO2, 19 AD1/DIO1, 20 AD0/DIO0

## 10970
designator A?, comment XBP09-XCWIT-009
XBEE-PRO XSC -100MW 9.6KBPS; Manufacturer: Digi International; RF Family/Standard: General ISM &lt; 1GHz; Modulation: FHSS; Frequency: 900MHz; DataRate: 10kbps; Power - Output: 20dBm; Sensitivity: -106dBm; Serial Interfaces: UART; Antenna Type: Integrated, Wire Antenna; Voltage - Supply: 3 V ~ 3.6 V; Current - Receiving: 65mA; Current - Transmitting: 265mA; PartId: 10970; Part Number: XBP09-XCWIT-009; Supplier 1: Digi-Key; Supplier Part Number 1: 602-1279-ND; ComponentLink1Description: Datasheet; ComponentLink1URL: http://www.digi.com/pdf/ds_xbeeproxsc.pdf; ComponentLink2Description: Digi-Key Listing; ComponentLink2URL: https://www.digikey.com/product-detail/en/digi-international/XBP09-XCWIT-009/602-1279-ND/3079625; Price: 54.41; Device Package: Module; Operating Temperature: -40C ~ 85C; Mounting Type: Through Hole
footprint DIGI XBEE PRO WIRE 900
pins: 1 VCC, 2 DOUT, 3 DIN/~{CONFIG}, 4 DO8, 5 ~{RESET}, 6 PWM0/RSSI, 7 PWM1, 9 ~{DT}R/SLEEP_RQ/DI8, 10 GND, 11 AD4/DIO4, 12 ~{CTS}/DIO7, 13 ON/~{SLEEP}, 14 VREF, 15 ASSOC/AD5/DIO5, 16 ~{RTS}/AD6/DIO6, 17 AD3/DIO3, 18 AD2/DIO2, 19 AD1/DIO1, 20 AD0/DIO0

## 10971
designator A?, comment XBP09-DMWIT-156
XBEE PRO DIGIMESH 900MHZ WIRE; Manufacturer: Digi International; Protocol: Zigbee; DataRate: 156kbps; Power - Output: 17dBm; Sensitivity: -100dBm; Antenna Type: Integrated, Wire Antenna; Voltage - Supply: 3 V ~ 3.6 V; Current - Receiving: 80mA; Current - Transmitting: 210mA; PartId: 10971; Part Number: XBP09-DMWIT-156; Supplier 1: Digi-Key; Supplier Part Number 1: 602-1277-ND; ComponentLink1Description: Datasheet; ComponentLink1URL: http://ftp1.digi.com/support/documentation/90000903_G.pdf; ComponentLink2Description: Digi-Key Listing; ComponentLink2URL: https://www.digikey.com/product-detail/en/digi-international/XBP09-DMWIT-156/602-1277-ND/3482661; Price: 54.41; Device Package: Module; Operating Temperature: -40C ~ 85C; RF Family/Standard: 802.15.4; Frequency: 900MHz; Mounting Type: Through Hole
footprint DIGI XBEE PRO WIRE 900
pins: 1 VCC, 2 DOUT, 3 DIN/~{CONFIG}, 4 DO8, 5 ~{RESET}, 6 PWM0/RSSI, 7 PWM1, 9 ~{DT}R/SLEEP_RQ/DI8, 10 GND, 11 AD4/DIO4, 12 ~{CTS}/DIO7, 13 ON/~{SLEEP}, 14 VREF, 15 ASSOC/AD5/DIO5, 16 ~{RTS}/AD6/DIO6, 17 AD3/DIO3, 18 AD2/DIO2, 19 AD1/DIO1, 20 AD0/DIO0

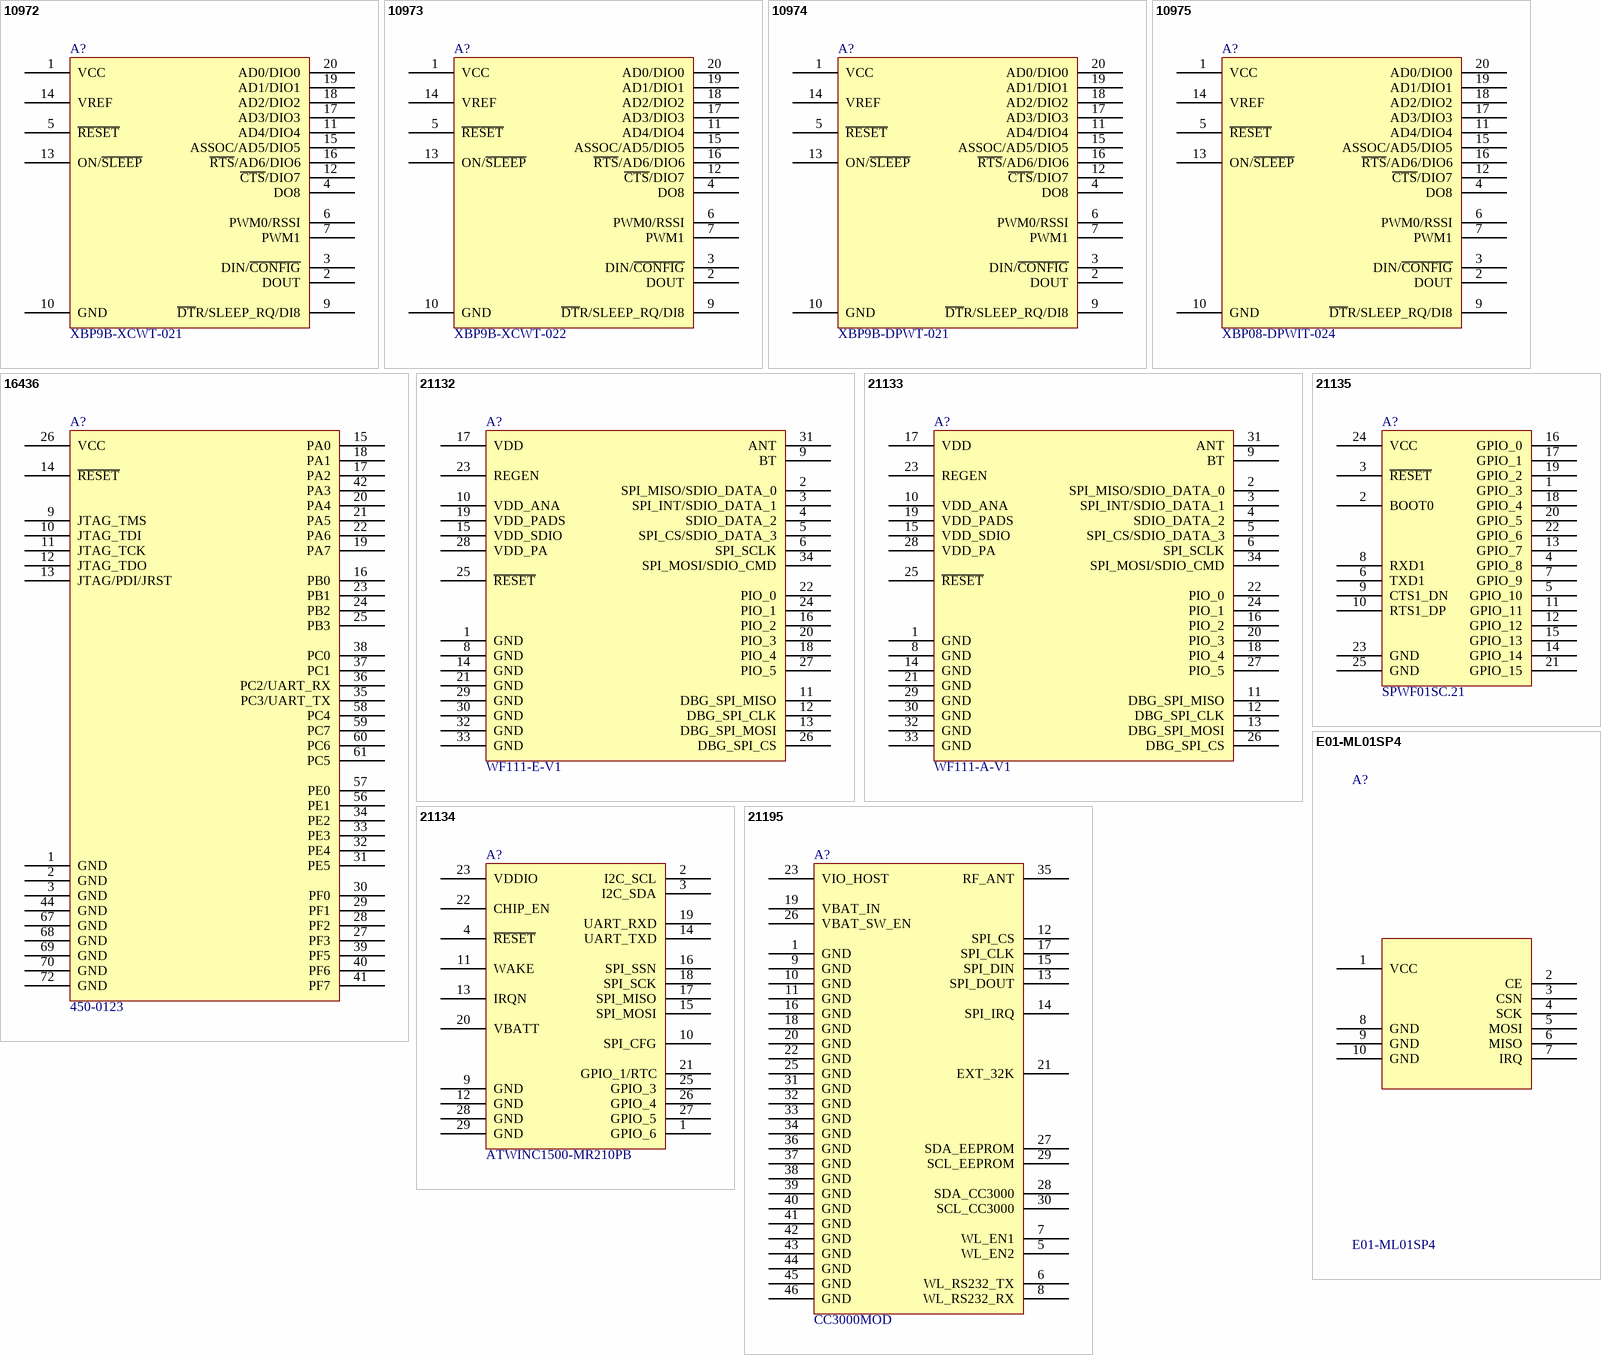
[diagram p5: symbols 10972 to E01-ML01SP4]

## 10972
designator A?, comment XBP9B-XCWT-021
XBEE PRO XSC S3B 900MHZ 250MW; Manufacturer: Digi International; RF Family/Standard: General ISM &lt; 1GHz; Modulation: FHSS; Frequency: 902MHz ~ 928MHz; DataRate: 10kbps; Power - Output: 24dBm; Sensitivity: -109dBm; Serial Interfaces: SPI, UART; Antenna Type: Integrated, Wire Antenna; Voltage - Supply: 2.4 V ~ 3.6 V; Current - Receiving: 26mA; Current - Transmitting: 215mA; PartId: 10972; Part Number: XBP9B-XCWT-021; Supplier 1: Digi-Key; Supplier Part Number 1: 602-1356-ND; ComponentLink1Description: Datasheet; ComponentLink1URL: http://www.digi.com/pdf/ds_xbeeproxsc.pdf; ComponentLink2Description: Digi-Key Listing; ComponentLink2URL: https://www.digikey.com/product-detail/en/digi-international/XBP9B-XCWT-021/602-1356-ND/3482826; Price: 54.41; Device Package: Module; Operating Temperature: -40C ~ 85C; Mounting Type: Through Hole
footprint DIGI XBEE PRO WIRE 900
pins: 1 VCC, 2 DOUT, 3 DIN/~{CONFIG}, 4 DO8, 5 ~{RESET}, 6 PWM0/RSSI, 7 PWM1, 9 ~{DT}R/SLEEP_RQ/DI8, 10 GND, 11 AD4/DIO4, 12 ~{CTS}/DIO7, 13 ON/~{SLEEP}, 14 VREF, 15 ASSOC/AD5/DIO5, 16 ~{RTS}/AD6/DIO6, 17 AD3/DIO3, 18 AD2/DIO2, 19 AD1/DIO1, 20 AD0/DIO0

## 10973
designator A?, comment XBP9B-XCWT-022
XBEE PRO XSC S3B 900MHZ 250MW; Manufacturer: Digi International; RF Family/Standard: General ISM &lt; 1GHz; Modulation: FHSS; Frequency: 902MHz ~ 928MHz; DataRate: 10kbps; Power - Output: 24dBm; Sensitivity: -107dBm; Serial Interfaces: SPI, UART; Antenna Type: Integrated, Wire Antenna; Voltage - Supply: 2.4 V ~ 3.6 V; Current - Receiving: 26mA; Current - Transmitting: 215mA; PartId: 10973; Part Number: XBP9B-XCWT-022; Supplier 1: Digi-Key; Supplier Part Number 1: 602-1357-ND; ComponentLink1Description: Datasheet; ComponentLink1URL: http://www.digi.com/pdf/ds_xbeeproxsc.pdf; ComponentLink2Description: Digi-Key Listing; ComponentLink2URL: https://www.digikey.com/product-detail/en/digi-international/XBP9B-XCWT-022/602-1357-ND/3482827; Price: 54.41; Device Package: Module; Operating Temperature: -40C ~ 85C; Mounting Type: Through Hole
footprint DIGI XBEE PRO WIRE 900
pins: 1 VCC, 2 DOUT, 3 DIN/~{CONFIG}, 4 DO8, 5 ~{RESET}, 6 PWM0/RSSI, 7 PWM1, 9 ~{DT}R/SLEEP_RQ/DI8, 10 GND, 11 AD4/DIO4, 12 ~{CTS}/DIO7, 13 ON/~{SLEEP}, 14 VREF, 15 ASSOC/AD5/DIO5, 16 ~{RTS}/AD6/DIO6, 17 AD3/DIO3, 18 AD2/DIO2, 19 AD1/DIO1, 20 AD0/DIO0

## 10974
designator A?, comment XBP9B-DPWT-021
XBEE PRO WIRE ANT 250MW 10KBPS; Manufacturer: Digi International; RF Family/Standard: General ISM &lt; 1GHz; Modulation: FHSS; Frequency: 902MHz ~ 928MHz; Power - Output: 24dBm; Sensitivity: -110dBm; Serial Interfaces: SPI, UART; Antenna Type: Integrated, Wire Antenna; Voltage - Supply: 2.1 V ~ 3.6 V; Current - Receiving: 29mA; Current - Transmitting: 215mA; PartId: 10974; Part Number: XBP9B-DPWT-021; Supplier 1: Digi-Key; Supplier Part Number 1: 602-1489-ND; ComponentLink1Description: Datasheet; ComponentLink1URL: http://www.digi.com/pdf/ds_xbeepro900hp.pdf; ComponentLink2Description: Digi-Key Listing; ComponentLink2URL: https://www.digikey.com/product-detail/en/digi-international/XBP9B-DPWT-021/602-1489-ND/3728687; Price: 54.41; Device Package: Module; Operating Temperature: -40C ~ 85C; DataRate: 10kbps; Mounting Type: Through Hole
footprint DIGI XBEE PRO WIRE 900
pins: 1 VCC, 2 DOUT, 3 DIN/~{CONFIG}, 4 DO8, 5 ~{RESET}, 6 PWM0/RSSI, 7 PWM1, 9 ~{DT}R/SLEEP_RQ/DI8, 10 GND, 11 AD4/DIO4, 12 ~{CTS}/DIO7, 13 ON/~{SLEEP}, 14 VREF, 15 ASSOC/AD5/DIO5, 16 ~{RTS}/AD6/DIO6, 17 AD3/DIO3, 18 AD2/DIO2, 19 AD1/DIO1, 20 AD0/DIO0

## 10975
designator A?, comment XBP08-DPWIT-024
XBEE PRO 868MHZ 1-315MW WIRE EU; Manufacturer: Digi International; Protocol: Zigbee; DataRate: 24kbps; Power - Output: 25dBm; Sensitivity: -112dBm; Antenna Type: Integrated, Wire Antenna; Voltage - Supply: 3 V ~ 3.6 V; Current - Receiving: 65mA; Current - Transmitting: 500mA; PartId: 10975; Part Number: XBP08-DPWIT-024; Supplier 1: Digi-Key; Supplier Part Number 1: 602-1475-ND; ComponentLink1Description: Datasheet; ComponentLink1URL: http://www.digi.com/pdf/ds_xbeepro868.pdf; ComponentLink2Description: Digi-Key Listing; ComponentLink2URL: https://www.digikey.com/product-detail/en/digi-international/XBP08-DPWIT-024/602-1475-ND/3482658; Price: 62.78; Device Package: Module; Operating Temperature: -40C ~ 85C; RF Family/Standard: 802.15.4; Frequency: 868MHz; Mounting Type: Through Hole
footprint DIGI XBEE PRO WIRE 900
pins: 1 VCC, 2 DOUT, 3 DIN/~{CONFIG}, 4 DO8, 5 ~{RESET}, 6 PWM0/RSSI, 7 PWM1, 9 ~{DT}R/SLEEP_RQ/DI8, 10 GND, 11 AD4/DIO4, 12 ~{CTS}/DIO7, 13 ON/~{SLEEP}, 14 VREF, 15 ASSOC/AD5/DIO5, 16 ~{RTS}/AD6/DIO6, 17 AD3/DIO3, 18 AD2/DIO2, 19 AD1/DIO1, 20 AD0/DIO0

## 16436
designator A?, comment 450-0123
RF TXRX MODULE 802.15.4 U.FL ANT; Manufacturer: LSR; Protocol: Zigbee; Modulation: BPSK, O-QPSK; Frequency: 900MHz; DataRate: 1Mbps; Power - Output: 24dBm; Sensitivity: -102dBm; Serial Interfaces: JTAG, SPI, UART; Antenna Type: Not Included, U.FL; Memory Size: 256kB Flash, 4kB EEPROM, 16kB RAM; Voltage - Supply: 2 V ~ 3.45 V; Current - Receiving: 30mA; Current - Transmitting: 285mA; PartId: 16436; Part Number: 450-0123; Supplier 1: Digi-Key; Supplier Part Number 1: 450-0123-ND; ComponentLink1Description: Datasheet; ComponentLink1URL: http://www.lsr.com/downloads/products/330-0152.pdf; ComponentLink2Description: Digi-Key Listing; ComponentLink2URL: http://www.digikey.com/product-detail/en/lsr/450-0123/450-0123-ND/4732750; Price: 48.63; Type: RF Transceiver Modules; Device Package: Module; Operating Temperature: -40C ~ 85C; RF Family/Standard: 802.15.4; Mounting Type: Surface Mount
footprint LSR SIFLEX02-R2 U.FL
pins: 1 GND, 2 GND, 3 GND, 9 JTAG_TMS, 10 JTAG_TDI, 11 JTAG_TCK, 12 JTAG_TDO, 13 JTAG/PDI/JRST, 14 ~{RESET}, 15 PA0, 16 PB0, 17 PA2, 18 PA1, 19 PA7, 20 PA4, 21 PA5, 22 PA6, 23 PB1, 24 PB2, 25 PB3, 26 VCC, 27 PF3, 28 PF2, 29 PF1, 30 PF0, 31 PE5, 32 PE4, 33 PE3, 34 PE2, 35 PC3/UART_TX, 36 PC2/UART_RX, 37 PC1, 38 PC0, 39 PF5, 40 PF6, 41 PF7, 42 PA3, 44 GND, 56 PE1, 57 PE0, 58 PC4, 59 PC7, 60 PC6, 61 PC5, 67 GND, 68 GND, 69 GND, 70 GND, 72 GND

## 21132
designator A?, comment WF111-E-V1
RF TXRX MODULE WIFI U.FL ANT; Manufacturer: Silicon Labs; Protocol: 802.11b/g/n; Frequency: 2.4GHz; DataRate: 72.2Mbps; Power - Output: 17dBm; Sensitivity: -97dBm; Serial Interfaces: PIO, SDIO, SPI; Antenna Type: Not Included, U.FL; Voltage - Supply: 1.7 V ~ 3.6 V; Current - Receiving: 70mA ~ 88mA; Current - Transmitting: 74mA ~ 192mA; PartId: 21132; Part Number: WF111-E-V1; Supplier 1: Digi-Key; Supplier Part Number 1: 1446-1032-ND; ComponentLink1Description: Datasheet; ComponentLink1URL: //media.digikey.com/pdf/Data%20Sheets/BlueGiga%20PDFs/WF111.pdf; ComponentLink2Description: Digi-Key Listing; ComponentLink2URL: http://www.digikey.com/product-detail/en/silicon-labs/WF111-E-V1/1446-1032-ND/4245507; Price: 10.22; Type: RF Transceiver Modules; Device Package: Module; Operating Temperature: -40C ~ 85C; RF Family/Standard: WiFi; Modulation: -; Memory Size: -; Mounting Type: Surface Mount
footprint SI LABS WF111E
pins: 1 GND, 2 SPI_MISO/SDIO_DATA_0, 3 SPI_INT/SDIO_DATA_1, 4 SDIO_DATA_2, 5 SPI_CS/SDIO_DATA_3, 6 SPI_SCLK, 8 GND, 9 BT, 10 VDD_ANA, 11 DBG_SPI_MISO, 12 DBG_SPI_CLK, 13 DBG_SPI_MOSI, 14 GND, 15 VDD_SDIO, 16 PIO_2, 17 VDD, 18 PIO_4, 19 VDD_PADS, 20 PIO_3, 21 GND, 22 PIO_0, 23 REGEN, 24 PIO_1, 25 ~{RESET}, 26 DBG_SPI_CS, 27 PIO_5, 28 VDD_PA, 29 GND, 30 GND, 31 ANT, 32 GND, 33 GND, 34 SPI_MOSI/SDIO_CMD

## 21133
designator A?, comment WF111-A-V1
RF TXRX MODULE WIFI CHIP ANT; Manufacturer: Silicon Labs; Protocol: 802.11b/g/n; Frequency: 2.4GHz; DataRate: 72.2Mbps; Power - Output: 17dBm; Sensitivity: -97dBm; Serial Interfaces: PIO, SDIO, SPI; Antenna Type: Integrated, Chip; Voltage - Supply: 1.7 V ~ 3.6 V; Current - Receiving: 88mA; Current - Transmitting: 192mA; PartId: 21133; Part Number: WF111-A-V1; Supplier 1: Digi-Key; Supplier Part Number 1: 1446-1031-ND; ComponentLink1Description: Datasheet; ComponentLink1URL: //media.digikey.com/pdf/Data%20Sheets/BlueGiga%20PDFs/WF111.pdf; ComponentLink2Description: Digi-Key Listing; ComponentLink2URL: http://www.digikey.com/product-detail/en/silicon-labs/WF111-A-V1/1446-1031-ND/4245506; Price: 10.22; Type: RF Transceiver Modules; Device Package: Module; Operating Temperature: -40C ~ 85C; RF Family/Standard: WiFi; Modulation: -; Memory Size: -; Mounting Type: Surface Mount
footprint SI LABS WF111A
pins: 1 GND, 2 SPI_MISO/SDIO_DATA_0, 3 SPI_INT/SDIO_DATA_1, 4 SDIO_DATA_2, 5 SPI_CS/SDIO_DATA_3, 6 SPI_SCLK, 8 GND, 9 BT, 10 VDD_ANA, 11 DBG_SPI_MISO, 12 DBG_SPI_CLK, 13 DBG_SPI_MOSI, 14 GND, 15 VDD_SDIO, 16 PIO_2, 17 VDD, 18 PIO_4, 19 VDD_PADS, 20 PIO_3, 21 GND, 22 PIO_0, 23 REGEN, 24 PIO_1, 25 ~{RESET}, 26 DBG_SPI_CS, 27 PIO_5, 28 VDD_PA, 29 GND, 30 GND, 31 ANT, 32 GND, 33 GND, 34 SPI_MOSI/SDIO_CMD

## 21134
designator A?, comment ATWINC1500-MR210PB
RF TXRX MODULE WIFI TRACE ANT; Manufacturer: Atmel; Protocol: 802.11b/g/n; Frequency: 2.4GHz; DataRate: 72.2Mbps; Power - Output: 19.5dBm; Sensitivity: -98dBm; Serial Interfaces: IC, SPI, UART; Antenna Type: Integrated, Trace; Memory Size: 4MB Flash, 128kB RAM; Voltage - Supply: 3 V ~ 4.2 V; Current - Receiving: 52.5mA ~ 70.1mA; Current - Transmitting: 132mA ~ 294mA; PartId: 21134; Part Number: ATWINC1500-MR210PB; Supplier 1: Digi-Key; Supplier Part Number 1: ATWINC1500-MR210PB-ND; ComponentLink1Description: Datasheet; ComponentLink1URL: http://www.atmel.com/images/atmel-42502-smartconnect-winc1500-mr210pb_datasheet.pdf; ComponentLink2Description: Digi-Key Listing; ComponentLink2URL: http://www.digikey.com/product-search/en?keywords=ATWINC1500-MR210PB; Price: 16.3; Type: RF Transceiver Modules; Device Package: Module; Operating Temperature: -40C ~ 85C; RF Family/Standard: WiFi; Mounting Type: Surface Mount
footprint ATMEL ATWINC1500-MR210PB
pins: 1 GPIO_6, 2 I2C_SCL, 3 I2C_SDA, 4 ~{RESET}, 9 GND, 10 SPI_CFG, 11 WAKE, 12 GND, 13 IRQN, 14 UART_TXD, 15 SPI_MOSI, 16 SPI_SSN, 17 SPI_MISO, 18 SPI_SCK, 19 UART_RXD, 20 VBATT, 21 GPIO_1/RTC, 22 CHIP_EN, 23 VDDIO, 25 GPIO_3, 26 GPIO_4, 27 GPIO_5, 28 GND, 29 GND

## 21135
designator A?, comment SPWF01SC.21
RF TXRX MODULE WIFI U.FL ANT; Manufacturer: STMicroelectronics; Protocol: 802.11b/g/n; Modulation: DSSS, OFDM; Frequency: 2.4GHz; DataRate: 65Mbps; Power - Output: 18.3dBm; Sensitivity: -96dBm; Serial Interfaces: UART; Antenna Type: Not Included, U.FL; Memory Size: 512kB Flash, 64kB RAM; Voltage - Supply: 3.3V; Current - Receiving: 105mA; Current - Transmitting: 210mA ~ 344mA; PartId: 21135; Part Number: SPWF01SC.21; Supplier 1: Digi-Key; Supplier Part Number 1: 497-14639-ND; ComponentLink1Description: Datasheet; ComponentLink1URL: http://www.st.com/web/en/resource/technical/document/datasheet/DM00102124.pdf; ComponentLink2Description: Digi-Key Listing; ComponentLink2URL: http://www.digikey.com/product-search/en?keywords=SPWF01SC.21; Price: 19.11; Type: RF Transceiver Modules; Device Package: Module; Operating Temperature: -40C ~ 85C; RF Family/Standard: WiFi; Mounting Type: Surface Mount
footprint ST SPWF01SC.21
pins: 1 GPIO_3, 2 BOOT0, 3 ~{RESET}, 4 GPIO_8, 5 GPIO_10, 6 TXD1, 7 GPIO_9, 8 RXD1, 9 CTS1_DN, 10 RTS1_DP, 11 GPIO_11, 12 GPIO_12, 13 GPIO_7, 14 GPIO_14, 15 GPIO_13, 16 GPIO_0, 17 GPIO_1, 18 GPIO_4, 19 GPIO_2, 20 GPIO_5, 21 GPIO_15, 22 GPIO_6, 23 GND, 24 VCC, 25 GND

## 21195
designator A?, comment CC3000MOD
RF TXRX MODULE WIFI CHIP ANT; Manufacturer: Texas Instruments; Protocol: 802.11b/g; Modulation: CCK, DSSS, OFDM; Frequency: 2.4GHz; DataRate: 54Mbps; Power - Output: 18.3dBm; Sensitivity: -97.5dBm; Serial Interfaces: IC, SPI, UART; Antenna Type: Integrated, Chip; Voltage - Supply: 1.8 V ~ 3.6 V; Current - Receiving: 92mA; Current - Transmitting: 190mA ~ 260mA; PartId: 21195; Part Number: CC3000MOD; Supplier 1: Digi-Key; Supplier Part Number 1: 296-35057-ND; ComponentLink1Description: Datasheet; ComponentLink1URL: http://www.ti.com/lit/ds/symlink/cc3000.pdf; ComponentLink2Description: Digi-Key Listing; ComponentLink2URL: http://www.digikey.com/product-detail/en/texas-instruments/CC3000MOD/296-35057-ND/3725883; Price: 42.46; Type: RF Transceiver Modules; Device Package: Module; Operating Temperature: -20C ~ 70C; RF Family/Standard: WiFi; Memory Size: -; Mounting Type: Surface Mount
footprint TI CC3000
pins: 1 GND, 5 WL_EN2, 6 WL_RS232_TX, 7 WL_EN1, 8 WL_RS232_RX, 9 GND, 10 GND, 11 GND, 12 SPI_CS, 13 SPI_DOUT, 14 SPI_IRQ, 15 SPI_DIN, 16 GND, 17 SPI_CLK, 18 GND, 19 VBAT_IN, 20 GND, 21 EXT_32K, 22 GND, 23 VIO_HOST, 25 GND, 26 VBAT_SW_EN, 27 SDA_EEPROM, 28 SDA_CC3000, 29 SCL_EEPROM, 30 SCL_CC3000, 31 GND, 32 GND, 33 GND, 34 GND, 35 RF_ANT, 36 GND, 37 GND, 38 GND, 39 GND, 40 GND, 41 GND, 42 GND, 43 GND, 44 GND, 45 GND, 46 GND

## E01-ML01SP4
designator A?
RF TXRX MODULE 2.4GHZ EXT ANT SPI; Manufacturer: EBYTE; Antenna Type: External; Voltage - Supply: 2.0 V ~ 3.6 V; Current - Receiving: 27mA; Part Number: E01-ML01SP4; ComponentLink1Description: Datasheet; ComponentLink1URL: http://www.ebyte.com/en/pdf-down.aspx?id=895; Type: RF Transceiver Modules; Device Package: Module; Operating Temperature: -20C ~ 70C; Frequency: 2.4GHz; Serial Interfaces: SPI; Memory Size: -; Mounting Type: Surface Mount
footprint EBYTE E01-ML01SP4
pins: 1 VCC, 2 CE, 3 CSN, 4 SCK, 5 MOSI, 6 MISO, 7 IRQ, 8 GND, 9 GND, 10 GND

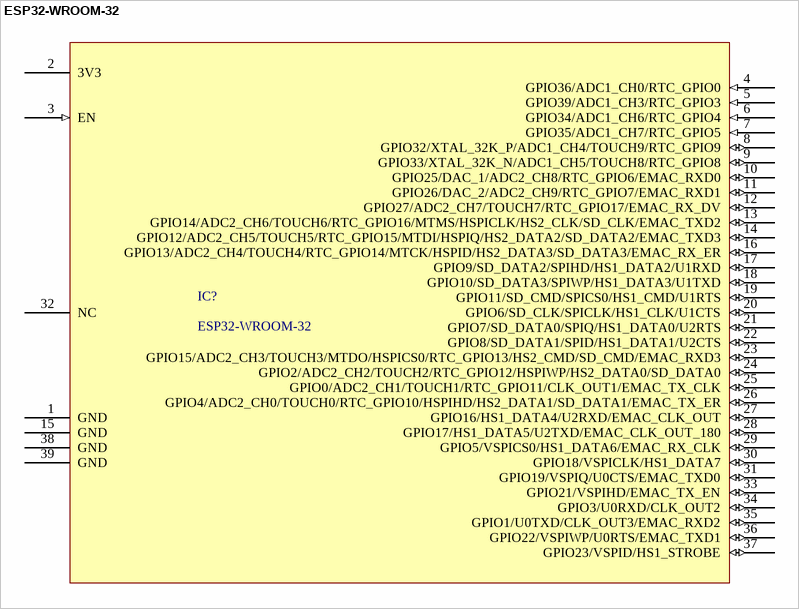
[diagram p6: symbol ESP32-WROOM-32]

## ESP32-WROOM-32
designator IC?
MODULE ESP32 WIFI/BT; Manufacturer: Espressif Systems; Antenna Type: Integrated, On Board; Frequency: 2.4Ghz; Modulation: CCK, DSSS, OFDM; Protocols: 802.11b/g/n, Bluetooth v4.2 + EDR, Class 1, 2 and 3; Device Package: Module; Mounting Type: Surface Mount; Operating Temperature: -40'C ~ +80'C; Part Number: ESP32-WROOM-32; Price: 6.08$; ComponentLink1Description: Datasheet; ComponentLink1URL: https://www.espressif.com/sites/default/files/documentation/esp32-wroom-32d_esp32-wroom-32u_datasheet_en.pdf; ComponentLink2Description: Digi-Key Listing; ComponentLink2URL: https://www.digikey.com/product-detail/en/espressif-systems/ESP32-WROOM-32D/1904-1023-2-ND/9381716
footprint ESP32-WROOM-32 (Hybrid Wi-Fi & Bluetooth Chip)
pins: 1 GND (power), 2 3V3, 3 EN (in), 4 GPIO36/ADC1_CH0/RTC_GPIO0 (in), 5 GPIO39/ADC1_CH3/RTC_GPIO3 (in), 6 GPIO34/ADC1_CH6/RTC_GPIO4 (in), 7 GPIO35/ADC1_CH7/RTC_GPIO5 (in), 8 GPIO32/XTAL_32K_P/ADC1_CH4/TOUCH9/RTC_GPIO9 (io), 9 GPIO33/XTAL_32K_N/ADC1_CH5/TOUCH8/RTC_GPIO8 (io), 10 GPIO25/DAC_1/ADC2_CH8/RTC_GPIO6/EMAC_RXD0 (io), 11 GPIO26/DAC_2/ADC2_CH9/RTC_GPIO7/EMAC_RXD1 (io), 12 GPIO27/ADC2_CH7/TOUCH7/RTC_GPIO17/EMAC_RX_DV (io), 13 GPIO14/ADC2_CH6/TOUCH6/RTC_GPIO16/MTMS/HSPICLK/HS2_CLK/SD_CLK/EMAC_TXD2 (io), 14 GPIO12/ADC2_CH5/TOUCH5/RTC_GPIO15/MTDI/HSPIQ/HS2_DATA2/SD_DATA2/EMAC_TXD3 (io), 15 GND (power), 16 GPIO13/ADC2_CH4/TOUCH4/RTC_GPIO14/MTCK/HSPID/HS2_DATA3/SD_DATA3/EMAC_RX_ER (io), 17 GPIO9/SD_DATA2/SPIHD/HS1_DATA2/U1RXD (io), 18 GPIO10/SD_DATA3/SPIWP/HS1_DATA3/U1TXD (io), 19 GPIO11/SD_CMD/SPICS0/HS1_CMD/U1RTS (io), 20 GPIO6/SD_CLK/SPICLK/HS1_CLK/U1CTS (io), 21 GPIO7/SD_DATA0/SPIQ/HS1_DATA0/U2RTS (io), 22 GPIO8/SD_DATA1/SPID/HS1_DATA1/U2CTS (io), 23 GPIO15/ADC2_CH3/TOUCH3/MTDO/HSPICS0/RTC_GPIO13/HS2_CMD/SD_CMD/EMAC_RXD3 (io), 24 GPIO2/ADC2_CH2/TOUCH2/RTC_GPIO12/HSPIWP/HS2_DATA0/SD_DATA0 (io), 25 GPIO0/ADC2_CH1/TOUCH1/RTC_GPIO11/CLK_OUT1/EMAC_TX_CLK (io), 26 GPIO4/ADC2_CH0/TOUCH0/RTC_GPIO10/HSPIHD/HS2_DATA1/SD_DATA1/EMAC_TX_ER (io), 27 GPIO16/HS1_DATA4/U2RXD/EMAC_CLK_OUT (io), 28 GPIO17/HS1_DATA5/U2TXD/EMAC_CLK_OUT_180 (io), 29 GPIO5/VSPICS0/HS1_DATA6/EMAC_RX_CLK (io), 30 GPIO18/VSPICLK/HS1_DATA7 (io), 31 GPIO19/VSPIQ/U0CTS/EMAC_TXD0 (io), 32 NC, 33 GPIO21/VSPIHD/EMAC_TX_EN (io), 34 GPIO3/U0RXD/CLK_OUT2 (io), 35 GPIO1/U0TXD/CLK_OUT3/EMAC_RXD2 (io), 36 GPIO22/VSPIWP/U0RTS/EMAC_TXD1 (io), 37 GPIO23/VSPID/HS1_STROBE (io), 38 GND (power), 39 GND (power)